# EAGLE library part TWIG-4P-2.0-SMD-FEMALE-REINFORCE (library Grove_SMD)
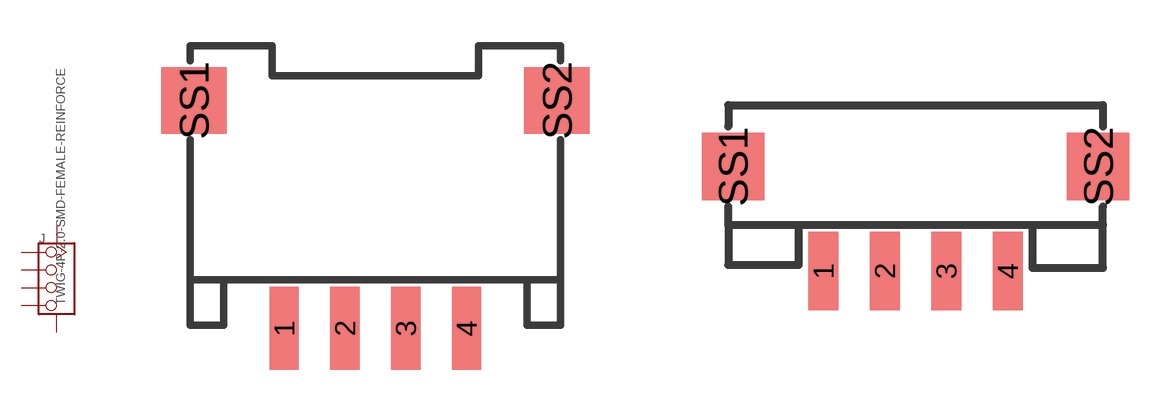
[diagram p0: symbol with the pads of 4P-SMD-2.0-90D; footprints 4P-SMD-2.0-90D, 4P-SMD-2.0]

Designator prefix J

## TWIG-4P-2.0-SMD-FEMALE-REINFORCE90D  [4P-SMD-2.0-90D]
1  1
2  2
3  3
4  4
SS1  SS1
SS2  SS2

## TWIG-4P-2.0-SMD-FEMALE-REINFORCEDD  [4P-SMD-2.0]
Pads as for 4P-SMD-2.0-90D

## TWIG-4P-2.0-SMD-FEMALE-REINFORCE  [4P-SMD-2.0-90D_LEFT]
Pads as for 4P-SMD-2.0-90D

## TWIG-4P-2.0-SMD-FEMALE-REINFORCERIGHT  [4P-SMD-2.0-90D_RIGHT]
Pads as for 4P-SMD-2.0-90D

## Footprint 4P-SMD-2.0-90D (pad centres in mm)
smd 0.965 x 2.74: 1 -3,-0.1; 2 -1,-0.1; 3 1,-0.1; 4 3,-0.1
smd 2.159 x 2.184: SS1 -5.974,7.4; SS2 5.974,7.4

## Footprint 4P-SMD-2.0 (pad centres in mm)
smd 0.965 x 2.54: 1 -3,0; 2 -1,0; 3 1,0; 4 3,0
smd 2.032 x 2.184: SS1 -5.946,3.4; SS2 5.946,3.4

## Footprint 4P-SMD-2.0-90D_LEFT (pad centres in mm)
smd 0.965 x 2.74: 1 -3,-0.1; 2 -1,-0.1; 3 1,-0.1; 4 3,-0.1
smd 0.5 x 0.5: SS1 -5.974,7.4
smd 2 x 2: SS2 6,7.25

## Footprint 4P-SMD-2.0-90D_RIGHT (pad centres in mm)
smd 0.965 x 2.74: 1 -3,-0.1; 2 -1,-0.1; 3 1,-0.1; 4 3,-0.1
smd 2 x 2: SS1 -5.974,7.15
smd 0.5 x 0.5: SS2 5.974,7.4